# Altium schematic symbol library Discrete.SchLib: 23 symbols
Pins are listed as number, name and electrical type; pins without a type are passive.

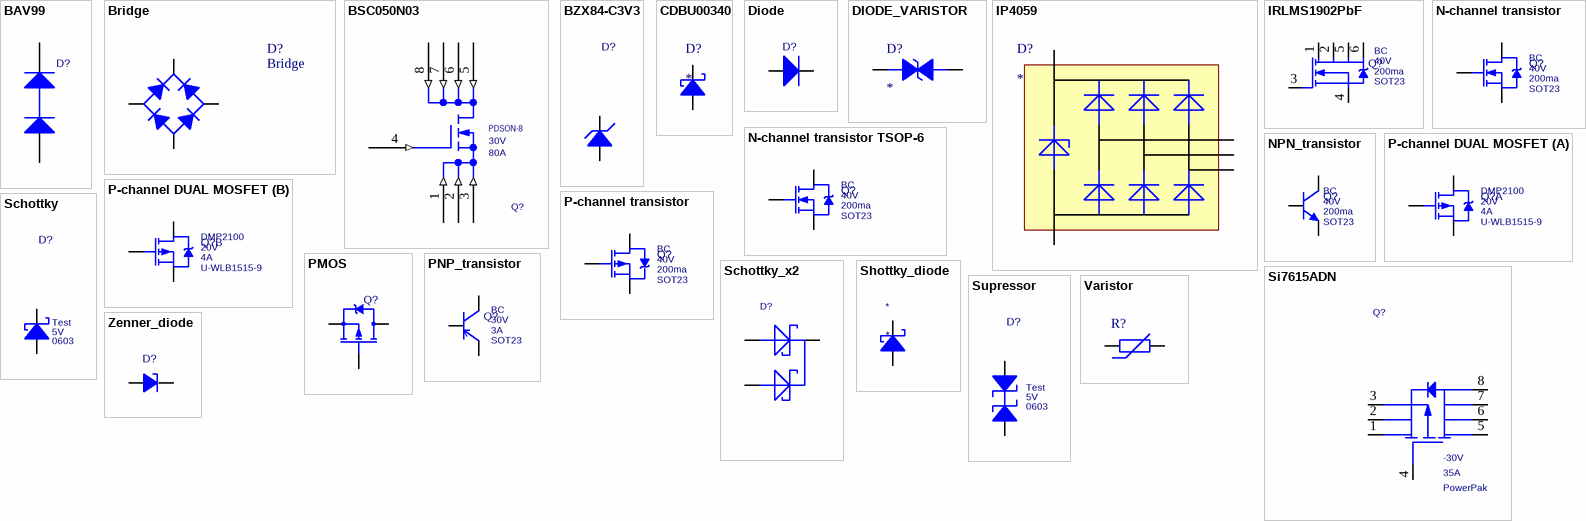
[diagram p0: symbols BAV99 to Zenner_diode]

## BAV99
designator D?
Dual small signal diode
pins: 1 A, 2 K, 3 C

## Bridge
designator D?
Full Wave Diode Bridge
pins: 1 K, 2 C, 3 A, 4 C

## BSC050N03
designator Q?  Case: PDSON-8  Voltage: 30V  Current: 80A
MOSFET N-CH 30V 80A TDSON-8
pins: 1 S1 (in), 2 S2 (in), 3 S3 (in), 4 G (in), 5 D1 (in), 6 D2 (in), 7 D3 (in), 8 D4 (in)

## BZX84-C3V3
designator D?
Dual small signal diode
pins: 1 C, 3 K

## CDBU00340
designator D?
PD3S - Schottky; PART_NUMBER: 480-00097; Rated Voltage: 640mV @ 1A; CLASS: DISCRETE; case: PowerDI™ 323
pins: A, C

## Diode
designator D?
Diode
pins: 1 K, 2 A

## DIODE_VARISTOR
designator D?
pins: 1, 2

## IP4059
designator D?
USB2.0 HS ESD Protector
pins: A1 D-, A2 Vbus, B1 GND, C1 D+, C2 ID

## IRLMS1902PbF
designator Q?  Part number: BC  Current: 200ma  Voltage: 40V  Case: SOT23
N-channel MOSFET
pins: 1 D, 2 D, 3 G, 4 S, 5 D, 6 D

## N-channel transistor
designator Q?  Part number: BC  Current: 200ma  Voltage: 40V  Case: SOT23
N-channel transistor
pins: 1 G, 2 S, 3 D

## N-channel transistor TSOP-6
designator Q?  Part number: BC  Current: 200ma  Voltage: 40V  Case: SOT23
N-channel transistor TSOP-6 package
pins: 1 D, 2 D, 3 G, 4 S, 5 D, 6 D

## NPN_transistor
designator Q?  Part number: BC  Current: 200ma  Voltage: 40V  Case: SOT23
General Purpose Transistor
pins: 1 B, 2 E, 3 C

## P-channel DUAL MOSFET
designator Q?  Part number: DMP2100  Current: 4A  Voltage: 20V  Case: U-WLB1515-9
P-channel DUAL MOSFET
part A pins: A1 G1, A2 D1, A3 D1, B1 SS, B3 D1
part B pins: B1 SS, B2 D2, C1 G2, C2 D2, C3 D2

## P-channel transistor
designator Q?  Part number: BC  Current: 200ma  Voltage: 40V  Case: SOT23
P-channel transistor
pins: 1 G, 2 S, 3 D

## PMOS
designator Q?
P-channel DUAL MOSFET
pins: 1 G, 2 S, B2 D2

## PNP_transistor
designator Q?  Part number: BC  Current: 3A  Voltage: 30V  Case: SOT23
General Purpose Transistor
footprint SOT23-6L (SOT23, 6-Leads, Body 2,95x2,80mm, Pitch 0,95mm, IPC Medium Density)
pins: 1 C, 2 C, 3 B, 4 E, 5 C, 6 C

## Schottky
designator D?  Part number: Test  Voltage: 5V  Case: 0603
Schottky
pins: 1 A, 2 C

## Schottky_x2
designator D?
pins: 1 Anode, 2 Anode1, 3 Cathod

## Shottky_diode
designator *
pins: A, C

## Si7615ADN
designator Q?  Volatge: -30V  Current: 35A  Case: PowerPak
pins: 1 S1, 2 S2, 3 S3, 4 G, 5 D5, 6 D6, 7 D7, 8 D8

## Supressor
designator D?  Part number: Test  Voltage: 5V  Case: 0603
Supressor
pins: 1 A, 2 K

## Varistor
designator R?  (value not drawn)
Varistor (Voltage-Sensitive Resistor)
pins: 1, 2

## Zenner_diode
designator D?
Transient Voltage Suppressor
pins: A, C